# Altium integrated library ON Semi Signal Management Audio ASSP.IntLib: 26 symbols (part 1 of 2)
Pins are listed as number, name and electrical type; pins without a type are passive.

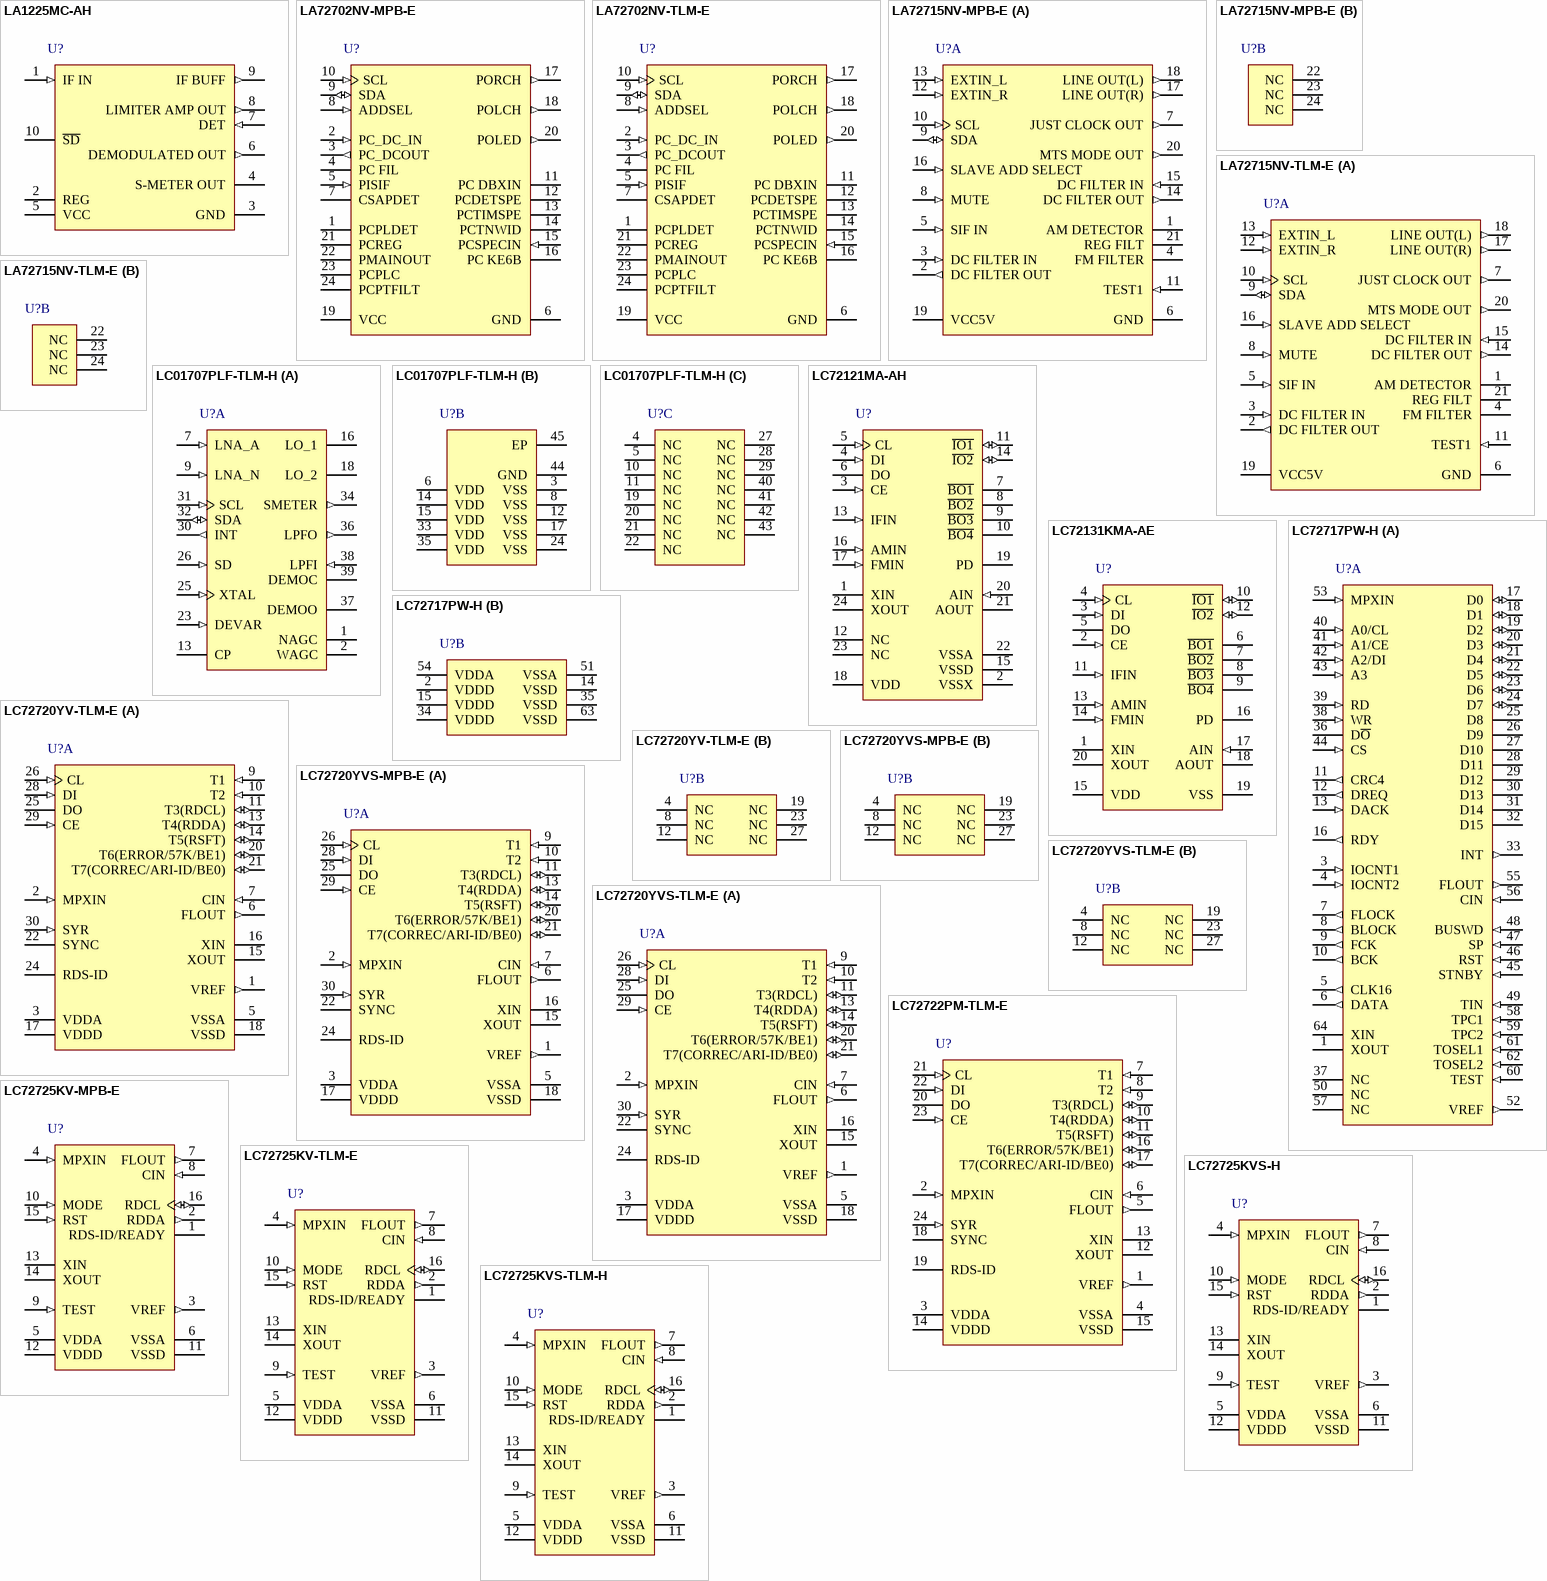
[diagram p0: symbols LA1225MC-AH to LC72725KVS-TLM-H]

## LA1225MC-AH
designator U?
FM IF Detector IC, 1.8 to 8 V, -20 to 85 degC, 10-Pin SOIC, Pb-Free, Tape and Reel; Manufacturer: On Semiconductor; PartNumber: LA1225MC-AH; Function: FM IF; Power Dissipation Max (mW): 100; Supply Voltage Max (V): 8; Supply Voltage Min (V): 1.8; DatasheetVersion: Rev. 0; PackageReference: SOIC-10-3426; PackageDescription: 10-Pin Small Outline Package, Body 5 x 4.4 mm, Pitch 1 mm; Supplier 1: Digi-Key; Supplier Part Number 1: LA1225MC-AH-ND; Supplier 2: Newark; Supplier Part Number 2: 45W2324; Supplier 3: Mouser; Supplier Part Number 3: 863-LA1225MC-AH; Packing: Tape and Reel; RoHS: TRUE; Mounting Technology: Surface Mount; ComponentLink1Description: Manufacturer URL; ComponentLink1URL: http://www.onsemi.com/; ComponentLink2Description: Datasheet; ComponentLink2URL: http://www.onsemi.com/pub_link/Collateral/ENA2052-D.PDF; ComponentLink3Description: Package Specification; ComponentLink3URL: http://www.onsemi.com/pub_link/Collateral/ENA2032-D.PDF
footprint ONSC-SOIC-10-3426_N (SOP, 10-Leads, Body 5x4.4mm, Pitch 1mm, IPC Medium Density)
footprint ONSC-SOIC-10-3426_L (SOP, 10-Leads, Body 5x4.4mm, Pitch 1mm, IPC High Density)
footprint ONSC-SOIC-10-3426_M (SOP, 10-Leads, Body 5x4.4mm, Pitch 1mm, IPC Low Density)
pins: 1 IF IN (in), 2 REG (power), 3 GND (power), 4 S-METER OUT (oe), 5 VCC (power), 6 DEMODULATED OUT (out), 7 DET (in), 8 LIMITER AMP OUT (out), 9 IF BUFF (out), 10 ~{SD} (oc)

## LA72702NV-MPB-E
designator U?
BTSC Decoder for US TV, 4.5 to 5.5 V, -20 to 85 degC, 24-Pin SSOP, Pb-Free, Fan-Fold; Manufacturer: On Semiconductor; PartNumber: LA72702NV-MPB-E; Power Dissipation Max (mW): 290; Supply Voltage Max (V): 5.5; Supply Voltage Min (V): 4.5; DatasheetVersion: Rev. 0; PackageReference: SSOP-24; PackageDescription: 24-Pin Small Outline Package, Body 7.8 x 5.6 mm, Pitch 0.65 mm; Supplier 1: Mouser; Supplier Part Number 1: 863-LA72702NV-MPB-E; Function: BTSC Decoder; Packing: Fan-Fold; RoHS: TRUE; Mounting Technology: Surface Mount; ComponentLink1Description: Manufacturer URL; ComponentLink1URL: http://www.onsemi.com/; ComponentLink2Description: Datasheet; ComponentLink2URL: http://www.onsemi.com/pub_link/Collateral/ENA0979-D.PDF; ComponentLink3Description: Package Specification; ComponentLink3URL: http://www.onsemi.com/pub_link/Collateral/ENA0979-D.PDF
footprint ONSC-SSOP-24_N (SOP, 24-Leads, Body 7.8x5.6mm, Pitch 0.65mm, IPC Medium Density)
footprint ONSC-SSOP-24_L (SOP, 24-Leads, Body 7.8x5.6mm, Pitch 0.65mm, IPC High Density)
footprint ONSC-SSOP-24_M (SOP, 24-Leads, Body 7.8x5.6mm, Pitch 0.65mm, IPC Low Density)
pins: 1 PCPLDET, 2 PC_DC_IN (in), 3 PC_DCOUT (out), 4 PC FIL, 5 PISIF (in), 6 GND (power), 7 CSAPDET, 8 ADDSEL (in), 9 SDA (io), 10 SCL (in), 11 PC DBXIN, 12 PCDETSPE, 13 PCTIMSPE, 14 PCTNWID, 15 PCSPECIN (in), 16 PC KE6B, 17 PORCH (out), 18 POLCH (out), 19 VCC (power), 20 POLED (out), 21 PCREG, 22 PMAINOUT, 23 PCPLC, 24 PCPTFILT

## LA72702NV-TLM-E
designator U?
BTSC Decoder for US TV, 4.5 to 5.5 V, -20 to 85 degC, 24-Pin SSOP, Pb-Free, Tape and Reel; Manufacturer: On Semiconductor; PartNumber: LA72702NV-TLM-E; Power Dissipation Max (mW): 290; Supply Voltage Max (V): 5.5; Supply Voltage Min (V): 4.5; DatasheetVersion: Rev. 0; PackageReference: SSOP-24; PackageDescription: 24-Pin Small Outline Package, Body 7.8 x 5.6 mm, Pitch 0.65 mm; Supplier 1: Mouser; Supplier Part Number 1: 863-LA72702NV-TLM-E; Function: BTSC Decoder; Packing: Tape and Reel; RoHS: TRUE; Mounting Technology: Surface Mount; ComponentLink1Description: Manufacturer URL; ComponentLink1URL: http://www.onsemi.com/; ComponentLink2Description: Datasheet; ComponentLink2URL: http://www.onsemi.com/pub_link/Collateral/ENA0979-D.PDF; ComponentLink3Description: Package Specification; ComponentLink3URL: http://www.onsemi.com/pub_link/Collateral/ENA0979-D.PDF
footprint ONSC-SSOP-24_N (SOP, 24-Leads, Body 7.8x5.6mm, Pitch 0.65mm, IPC Medium Density)
footprint ONSC-SSOP-24_L (SOP, 24-Leads, Body 7.8x5.6mm, Pitch 0.65mm, IPC High Density)
footprint ONSC-SSOP-24_M (SOP, 24-Leads, Body 7.8x5.6mm, Pitch 0.65mm, IPC Low Density)
pins: 1 PCPLDET, 2 PC_DC_IN (in), 3 PC_DCOUT (out), 4 PC FIL, 5 PISIF (in), 6 GND (power), 7 CSAPDET, 8 ADDSEL (in), 9 SDA (io), 10 SCL (in), 11 PC DBXIN, 12 PCDETSPE, 13 PCTIMSPE, 14 PCTNWID, 15 PCSPECIN (in), 16 PC KE6B, 17 PORCH (out), 18 POLCH (out), 19 VCC (power), 20 POLED (out), 21 PCREG, 22 PMAINOUT, 23 PCPLC, 24 PCPTFILT

## LA72715NV-MPB-E
designator U?
MTS (Multi Channel Television Sound) Decoder IC, 4.5 to 5.5 V, -20 to 80 degC, 24-Pin SSOP, Pb-Free, Fan-Fold; Manufacturer: On Semiconductor; PartNumber: LA72715NV-MPB-E; Function: MTS Decoder; Power Dissipation Max (mW): 203; Supply Voltage Max (V): 5.5; Supply Voltage Min (V): 4.5; DatasheetVersion: Rev. 0; PackageReference: SSOP-24; PackageDescription: 24-Pin Small Outline Package, Body 7.8 x 5.6 mm, Pitch 0.65 mm; Supplier 1: Mouser; Supplier Part Number 1: 863-LA72715NV-MPB-E; Packing: Fan-Fold; RoHS: TRUE; Mounting Technology: Surface Mount; ComponentLink1Description: Manufacturer URL; ComponentLink1URL: http://www.onsemi.com/; ComponentLink2Description: Datasheet; ComponentLink2URL: http://www.onsemi.com/pub_link/Collateral/LA72715NV-D.PDF; ComponentLink3Description: Package Specification; ComponentLink3URL: http://www.onsemi.com/pub_link/Collateral/ENA0979-D.PDF
footprint ONSC-SSOP-24_N (SOP, 24-Leads, Body 7.8x5.6mm, Pitch 0.65mm, IPC Medium Density)
footprint ONSC-SSOP-24_L (SOP, 24-Leads, Body 7.8x5.6mm, Pitch 0.65mm, IPC High Density)
footprint ONSC-SSOP-24_M (SOP, 24-Leads, Body 7.8x5.6mm, Pitch 0.65mm, IPC Low Density)
part A pins: 1 AM DETECTOR, 2 DC FILTER OUT (out), 3 DC FILTER IN (in), 4 FM FILTER, 5 SIF IN (in), 6 GND (power), 7 JUST CLOCK OUT (out), 8 MUTE (in), 9 SDA (io), 10 SCL (in), 11 TEST1 (in), 12 EXTIN_R (in), 13 EXTIN_L (in), 14 DC FILTER OUT (out), 15 DC FILTER IN (in), 16 SLAVE ADD SELECT (in), 17 LINE OUT(R) (out), 18 LINE OUT(L) (out), 19 VCC5V (power), 20 MTS MODE OUT (out), 21 REG FILT
part B pins: 22 NC, 23 NC, 24 NC

## LA72715NV-TLM-E
designator U?
MTS (Multi Channel Television Sound) Decoder IC, 4.5 to 5.5 V, -20 to 80 degC, 24-Pin SSOP, Pb-Free, Tape and Reel; Manufacturer: On Semiconductor; PartNumber: LA72715NV-TLM-E; Function: MTS Decoder; Power Dissipation Max (mW): 203; Supply Voltage Max (V): 5.5; Supply Voltage Min (V): 4.5; DatasheetVersion: Rev. 0; PackageReference: SSOP-24; PackageDescription: 24-Pin Small Outline Package, Body 7.8 x 5.6 mm, Pitch 0.65 mm; Supplier 1: Digi-Key; Supplier Part Number 1: LA72715NV-TLM-E-ND; Supplier 2: Mouser; Supplier Part Number 2: 863-LA72715NV-TLM-E; Packing: Tape and Reel; RoHS: TRUE; Mounting Technology: Surface Mount; ComponentLink1Description: Manufacturer URL; ComponentLink1URL: http://www.onsemi.com/; ComponentLink2Description: Datasheet; ComponentLink2URL: http://www.onsemi.com/pub_link/Collateral/LA72715NV-D.PDF; ComponentLink3Description: Package Specification; ComponentLink3URL: http://www.onsemi.com/pub_link/Collateral/ENA0979-D.PDF
footprint ONSC-SSOP-24_N (SOP, 24-Leads, Body 7.8x5.6mm, Pitch 0.65mm, IPC Medium Density)
footprint ONSC-SSOP-24_L (SOP, 24-Leads, Body 7.8x5.6mm, Pitch 0.65mm, IPC High Density)
footprint ONSC-SSOP-24_M (SOP, 24-Leads, Body 7.8x5.6mm, Pitch 0.65mm, IPC Low Density)
part A pins: 1 AM DETECTOR, 2 DC FILTER OUT (out), 3 DC FILTER IN (in), 4 FM FILTER, 5 SIF IN (in), 6 GND (power), 7 JUST CLOCK OUT (out), 8 MUTE (in), 9 SDA (io), 10 SCL (in), 11 TEST1 (in), 12 EXTIN_R (in), 13 EXTIN_L (in), 14 DC FILTER OUT (out), 15 DC FILTER IN (in), 16 SLAVE ADD SELECT (in), 17 LINE OUT(R) (out), 18 LINE OUT(L) (out), 19 VCC5V (power), 20 MTS MODE OUT (out), 21 REG FILT
part B pins: 22 NC, 23 NC, 24 NC

## LC01707PLF-TLM-H
designator U?
FM Multiple Tuner IC, 3 to 3.6 V, -40 to 85 degC, 44-Pin VQFN44K, Pb-Free, Tape and Reel; Manufacturer: On Semiconductor; PartNumber: LC01707PLF-TLM-H; Power Dissipation Max (mW): 700; Supply Voltage Max (V): 3.6; Supply Voltage Min (V): 3; DatasheetVersion: Rev. 2; PackageVersion: Rev. A, 12/2013; PackageReference: VQFN44K-44-485CH; PackageDescription: 44-Pin Quad Flat No-Lead, Body 6 x 6 mm, Pitch 0.4 mm; Supplier 1: Digi-Key; Supplier Part Number 1: LC01707PLF-TLM-H-ND; Supplier 2: Mouser; Supplier Part Number 2: 863-LC01707PLF-TLM-H; Function: FM Multiple Tuner; Packing: Tape and Reel; RoHS: TRUE; Mounting Technology: Surface Mount; ComponentLink1Description: Manufacturer URL; ComponentLink1URL: http://www.onsemi.com/; ComponentLink2Description: Datasheet; ComponentLink2URL: http://www.onsemi.com/pub_link/Collateral/ENA1928-D.PDF; ComponentLink3Description: Package Specification; ComponentLink3URL: http://www.onsemi.com/pub_link/Collateral/485CH.PDF
footprint ONSC-VQFN44K-44-485CH_V (QFN, 44-Leads, Body 6x6mm, Pitch 0.4mm, Thermal Pad 4x4mm)
part A pins: 1 NAGC "Narrow band AGC detection capacitance connecting pin", 2 WAGC "Wide band AGC detection capacitance connecting pin", 7 LNA_A (in) "LNA +input pin", 9 LNA_N (in) "LNA -input pin", 13 CP "PLL charge pump capacitance conneting pin", 16 LO_1 "Inductor connecting pin for local oscillation", 18 LO_2 "Inductor connecting pin for local oscillation", 23 DEVAR (in) "Device address setting pin", 25 XTAL (in) "Crystal resonator connecting pin (Clock input pin)", 26 SD (in) "Station detector pin", 30 INT (out) "Test pin", 31 SCL (in) "Serial data clock input", 32 SDA (io) "Serial data input-output", 34 SMETER (out) "S-meter output", 36 LPFO (out) "Demodulation output (after band limitation)", 37 DEMOO "Demodulation output", 38 LPFI (in) "Demodulation signal input pin", 39 DEMOC "Capacitance connecting pin for demodulation detection"
part B pins: 3 VSS (power) "GND pin for IF", 6 VDD (power) "Supply pin for LNA", 8 VSS (power) "GND pin for LNA", 12 VSS (power) "GND pin for 1st Mixer", 14 VDD (power) "Supply pin 1st Mixer", 15 VDD (power) "Supply pin for local oscillation", 17 VSS (power) "GND pin for local oscillation", 24 VSS (power) "GND pin for PLL and logic", 33 VDD (power) "Supply pin for PLL and logic", 35 VDD (power) "Supply pin for IF", 44 GND (power) "GND pin", 45 EP
part C pins: 4 NC, 5 NC, 10 NC, 11 NC, 19 NC, 20 NC, 21 NC, 22 NC, 27 NC, 28 NC, 29 NC, 40 NC, 41 NC, 42 NC, 43 NC

## LC72121MA-AH
designator U?
PLL Frequency Synthesizer for Electronic Tuning, 2.7 to 3.6 V, -40 to 85 degC, 24-Pin MFP24SJ, Pb-Free, Tape and Reel; Manufacturer: On Semiconductor; PartNumber: LC72121MA-AH; Power Dissipation Max (mW): 200; Supply Voltage Max (V): 3.6; Supply Voltage Min (V): 2.7; DatasheetVersion: Rev. 0; PackageVersion: Rev. O, 05/2012; PackageReference: MFP24SJ-24-751DB; PackageDescription: 24-Pin Mini Flat Package, Body 13 x 6 mm, Pitch 1 mm; Supplier 1: Digi-Key; Supplier Part Number 1: LC72121MA-AH-ND; Supplier 2: Mouser; Supplier Part Number 2: 863-LC72121MA-AH; Function: PLL Frequency Synthesizer; Packing: Tape and Reel; RoHS: TRUE; Mounting Technology: Surface Mount; ComponentLink1Description: Manufacturer URL; ComponentLink1URL: http://www.onsemi.com/; ComponentLink2Description: Datasheet; ComponentLink2URL: http://www.onsemi.com/pub_link/Collateral/ENA2009-D.PDF; ComponentLink3Description: Package Specification; ComponentLink3URL: http://www.onsemi.com/pub_link/Collateral/751DB.PDF
footprint ONSC-MFP24SJ-24-751DB_N (SOP, 24-Leads, Body 13.2x6.2mm, Pitch 1mm, IPC Medium Density)
footprint ONSC-MFP24SJ-24-751DB_L (SOP, 24-Leads, Body 13.2x6.2mm, Pitch 1mm, IPC High Density)
footprint ONSC-MFP24SJ-24-751DB_M (SOP, 24-Leads, Body 13.2x6.2mm, Pitch 1mm, IPC Low Density)
pins: 1 XIN "Crystal oscillator element connections (4.5 or 7.2 MHz)", 2 VSSX (power) "Ground for the crystal oscillator circuit", 3 CE (in) "This pin must be set high to enable serial data input (DI) or serial data output (DO).", 4 DI (in) "Input for serial data transferred from the controller", 5 CL (in) "Clock used for data synchronization for serial data input (DI) and serial data output (DO).", 6 DO (oc) "Output for serial data transferred to the controller. The content of the data transmitted is determined by DOC0 through DOC2.", 7 ~{BO1} (oc) "Output-only ports", 8 ~{BO2} (oc) "Output-only ports", 9 ~{BO3} (oc) "Output-only ports", 10 ~{BO4} (oc) "Output-only ports", 11 ~{IO1} (io) "Shared function I/O ports", 12 NC "No connection", 13 IFIN (in) "The input frequency range is 0.4 to15MHz", 14 ~{IO2} (io) "Shared function I/O ports", 15 VSSD (power) "Ground for the LC72121MA digital systems other than those that use VSSa or VSSX.", 16 AMIN (in) "AMIN is selected when DVS in the serial data is set to 0.", 17 FMIN (in) "FMIN is selected when DVS in the serial data is set to 1.", 18 VDD (power) "LC72121MA power supply (VDD 2.7 to 3.6V)", 19 PD (hiz) "PLL charge pump output", 20 AIN (in) "Connections for the MOS transistor used for the PLL active low-pass filter.", 21 AOUT (oc) "Connections for the MOS transistor used for the PLL active low-pass filter.", 22 VSSA (power) "Ground for the low-pass filter MOS transistor", 23 NC "No connection", 24 XOUT "Crystal oscillator element connections (4.5 or 7.2 MHz)"

## LC72131KMA-AE
designator U?
PLL Frequency Synthesizer, 4.5 to 5.5 V, -40 to 85 degC, 20-Pin MFP20J, Pb-Free, Tape and Reel; Manufacturer: On Semiconductor; PartNumber: LC72131KMA-AE; Power Dissipation Max (mW): 180; Supply Voltage Max (V): 5.5; Supply Voltage Min (V): 4.5; DatasheetVersion: Rev. 0; PackageVersion: Rev. O, 05/2012; PackageReference: MFP20J-20-751DE; PackageDescription: 20-Pin Mini Flat Package, Body 12.7 x 5.4 mm, Pitch 1.27 mm; Supplier 1: Digi-Key; Supplier Part Number 1: LC72131KMA-AE-ND; Supplier 2: Newark; Supplier Part Number 2: 45W2716; Supplier 3: Mouser; Supplier Part Number 3: 863-LC72131KMA-AE; Function: PLL Frequency Synthesizer; Packing: Tape and Reel; RoHS: TRUE; Mounting Technology: Surface Mount; ComponentLink1Description: Manufacturer URL; ComponentLink1URL: http://www.onsemi.com/; ComponentLink2Description: Datasheet; ComponentLink2URL: http://www.onsemi.com/pub_link/Collateral/ENA0788-D.PDF; ComponentLink3Description: Package Specification; ComponentLink3URL: http://www.onsemi.com/pub_link/Collateral/751DE.PDF
footprint ONSC-MFP20J-20-751DE_N (SOIC, 20-Leads, Body 13x5.6mm, Pitch 1.27mm, IPC Medium Density)
footprint ONSC-MFP20J-20-751DE_L (SOIC, 20-Leads, Body 13x5.6mm, Pitch 1.27mm, IPC High Density)
footprint ONSC-MFP20J-20-751DE_M (SOIC, 20-Leads, Body 13x5.6mm, Pitch 1.27mm, IPC Low Density)
pins: 1 XIN "Crystal resonator connection (4.5MHz/7.2MHz)", 2 CE (in) "Set this pin high when inputting (DI) or outputting (DO) serial data.", 3 DI (in) "Inputs serial data transferred from the controller to the LC72131KMA.", 4 CL (in) "Used as the synchronization clock when inputting (DI) or outputting (DO) serial data.", 5 DO (oc) "Outputs serial data transferred from the LC72131KMA to the controller.", 6 ~{BO1} (oc) "Dedicated output pins", 7 ~{BO2} (oc) "Dedicated output pins", 8 ~{BO3} (oc) "Dedicated output pins", 9 ~{BO4} (oc) "Dedicated output pins", 10 ~{IO1} (io) "I/O dual-use pins", 11 IFIN (in) "Accepts an input in the frequncy range 0.4 to 12MHz.", 12 ~{IO2} (io) "I/O dual-use pins", 13 AMIN (in) "AMIN is selected when the serial data input DVS bit is set to 1.", 14 FMIN (in) "FMIN is selected when the serial data input DVS bit is set to 1.", 15 VDD (power) "The LC72131KMA power supply pin (VDD=4.5 to 5.5V)", 16 PD (hiz) "PLL charge pump output", 17 AIN (in) "The n-channel MOS transisor used for the PLL active low-pass filter.", 18 AOUT (oc) "The n-channel MOS transisor used for the PLL active low-pass filter.", 19 VSS (power) "The LC72131KMA ground", 20 XOUT "Crystal resonator connection (4.5MHz/7.2MHz)"

## LC72717PW-H
designator U?
Mobile FM Multiplex Broadcast (DARC) Receiver IC, 2.7 to 3.6 V, -40 to 85 degC, 64-Pin SQFP, Pb-Free, Tray; Manufacturer: On Semiconductor; PartNumber: LC72717PW-H; Function: Mobile FM Multi Broadcast Demodulator; Power Dissipation Max (mW): 200; Supply Voltage Max (V): 3.6; Supply Voltage Min (V): 2.7; DatasheetVersion: Rev. 2; PackageVersion: Rev. A, 11/2013; PackageReference: SQFP-64-131AK; PackageDescription: 64-Pin Quad Flat Package, Body 10 x 10 mm, Pitch 0.5 mm; Supplier 1: Digi-Key; Supplier Part Number 1: LC72717PW-H-ND; Supplier 2: Mouser; Supplier Part Number 2: 863-LC72717PW-H; Packing: Tray; RoHS: TRUE; Mounting Technology: Surface Mount; ComponentLink1Description: Manufacturer URL; ComponentLink1URL: http://www.onsemi.com/; ComponentLink2Description: Datasheet; ComponentLink2URL: http://www.onsemi.com/pub_link/Collateral/ENA2064-D.PDF; ComponentLink3Description: Package Specification; ComponentLink3URL: http://www.onsemi.com/pub_link/Collateral/131AK.PDF
footprint ONSC-SQFP-64-131AK_V (QFP, 64-Leads, Body 10x10mm, Pitch 0.5mm)
part A pins: 1 XOUT "Pin for system clock (crystal oscillator)", 3 IOCNT1 (in) "Data bus I/O control 1 input pin", 4 IOCNT2 (in) "Data bus I/O control 2 input pin", 5 CLK16 (out) "Clock regeneration monitor pin", 6 DATA (out) "Demodulation data monitor pin", 7 FLOCK (out) "Frame synchronization flag output pin", 8 BLOCK (out) "Block synchronization flag output pin", 9 FCK (out) "Frame start signal output pin", 10 BCK (out) "Block start signal output pin", 11 CRC4 (out) "Layer 4 CRC check result output pin", 12 DREQ (out) "DMA REQ signal output pin", 13 DACK (in) "DMA ACK signal input pin", 16 RDY (out) "Read data READY signal output pin", 17 D0 (io) "Data bus 0 I/O pin", 18 D1 (io) "Data bus 1 I/O pin", 19 D2 (io) "Data bus 2 I/O pin", 20 D3 (io) "Data bus 3 I/O pin", 21 D4 (io) "Data bus 4 I/O pin", 22 D5 (io) "Data bus 5 I/O pin", 23 D6 (io) "Data bus 6 I/O pin", 24 D7 (io) "Data bus 7 I/O pin", 25 D8 (hiz) "Data bus 8 output pin", 26 D9 (hiz) "Data bus 9 output pin", 27 D10 (hiz) "Data bus 10 output pin", 28 D11 (hiz) "Data bus 11 output pin", 29 D12 (hiz) "Data bus 12 output pin", 30 D13 (hiz) "Data bus 13 output pin", 31 D14 (hiz) "Data bus 14 output pin", 32 D15 (hiz) "Data bus 15 output pin", 33 INT (out) "Interrupt output pin for external CPU", 36 D~{O} (hiz) "DO\ output pin", 37 NC "NC pin", 38 WR (in) "Write control signal input pin", 39 RD (in) "Read control signal input pin", 40 A0/CL (in) "CL input pin(CCB IF)/address input pin0 (parallel IF)", 41 A1/CE (in) "CE input pin (CCB IF)/address input pin1 (parallel IF)", 42 A2/DI (in) "DI input pin (CCB IF)/address input pin2 (parallel IF)", 43 A3 (in) "Address input pin 3 (parallel IF)", 44 CS (in) "Chip selector input pin (parallel IF)", 45 STNBY (in) "Standby mode input pin", 46 RST (in) "System reset input pin", 47 SP (in) "CCB/parallel setting input pin", 48 BUSWD (in) "Data bus width setting input pin", 49 TIN (in) "Test input pin", 50 NC "NC pin", 52 VREF (out) "Subcarrier output pin (76kHz BPF output)", 53 MPXIN (in) "Baseband (multiplex) signal input pin", 55 FLOUT (out) "Subcarrier output pin (76kHz BPF output)", 56 CIN (in) "Subcarrier input pin (comparator input)", 57 NC "NC pin", 58 TPC1 (in) "Test input pin", 59 TPC2 (in) "Test input pin", 60 TEST (in) "Test mode setting pin", 61 TOSEL1 (in) "Test input pin", 62 TOSEL2 (in) "Test input pin", 64 XIN "System clock pin"
part B pins: 2 VDDD (power) "Digital power pin", 14 VSSD (power) "Digital GND pin", 15 VDDD (power) "Digital power pin", 34 VDDD (power) "Digital power pin", 35 VSSD (power) "Digital GND pin", 51 VSSA (power) "Analog GND pin", 54 VDDA (power) "Analog power pin", 63 VSSD (power) "Digital GND pin"

## LC72720YV-TLM-E
designator U?
Single-Chip RDS Signal-Processing System IC, 3 to 3.6 V, -40 to 85 degC, 30-Pin SSOP, Pb-Free, Tape and Reel; Manufacturer: On Semiconductor; PartNumber: LC72720YV-TLM-E; Function: RDS/RBDS Signal Processer; Power Dissipation Max (mW): 150; Supply Voltage Max (V): 3.6; Supply Voltage Min (V): 3; DatasheetVersion: Rev. 0; PackageReference: SSOP-30; PackageDescription: 30-Pin Small Outline Package, Body 8 x 4.4 mm, Pitch 0.5 mm; Supplier 1: Digi-Key; Supplier Part Number 1: LC72720YV-TLM-E-ND; Supplier 2: Mouser; Supplier Part Number 2: 863-LC72720YV-TLM-E; Packing: Tape and Reel; RoHS: TRUE; Mounting Technology: Surface Mount; ComponentLink1Description: Manufacturer URL; ComponentLink1URL: http://www.onsemi.com/; ComponentLink2Description: Datasheet; ComponentLink2URL: http://www.onsemi.com/pub_link/Collateral/EN6488-D.PDF; ComponentLink3Description: Package Specification; ComponentLink3URL: http://www.onsemi.com/pub_link/Collateral/ENA2162-D.PDF
footprint ONSC-SSOP-30_N (SOP, 30-Leads, Body 8x4.4mm, Pitch 0.5mm, IPC Medium Density)
footprint ONSC-SSOP-30_L (SOP, 30-Leads, Body 8x4.4mm, Pitch 0.5mm, IPC High Density)
footprint ONSC-SSOP-30_M (SOP, 30-Leads, Body 8x4.4mm, Pitch 0.5mm, IPC Low Density)
part A pins: 1 VREF (out) "Reference voltage output (Vdda/2)", 2 MPXIN (in) "Baseband (multiplexed) signal input", 3 VDDA (power) "Analog system power (+3.3V)", 5 VSSA (power) "Analog system ground", 6 FLOUT (out) "Subcarrier output (filter output)", 7 CIN (in) "Subcarrier iutput (comparator input)", 9 T1 (in) "Test input (This pin must always be connected to ground)", 10 T2 (in) "Test input (stangby control) 0:Normal operation, 1:Standby state (crystal oscillator stopped)", 11 T3(RDCL) (io) "Test I/O (RDS clock output)", 13 T4(RDDA) (io) "Test I/O (RDS data output)", 14 T5(RSFT) (io) "Test I/O (soft-decision control data output)", 15 XOUT "Crystal oscillator output (4.332/5.664MHz)", 16 XIN "Crystal oscillator input (external reference signal input)", 17 VDDD (power) "Digital system power supply (+3.3V)", 18 VSSD (power) "Digital system ground", 20 T6(ERROR/57K/BE1) (io) "Test I/O (erroe status, regenerated carrier, error block count)", 21 T7(CORREC/ARI-ID/BE0) (io) "Test I/O (erroe correction status, SK detection, error block count)", 22 SYNC (oc) "Block synchronization detection output", 24 RDS-ID (oc) "RDS detection output", 25 DO (oc) "Data output", 26 CL (in) "Clock input", 28 DI (in) "Data input", 29 CE (in) "Chip enable", 30 SYR (in) "Synchronization and RAM address reset (active high)"
part B pins: 4 NC, 8 NC, 12 NC, 19 NC, 23 NC, 27 NC

## LC72720YVS-MPB-E
designator U?
Single-Chip RDS Signal-Processing System IC, 3 to 3.6 V, -40 to 85 degC, 30-Pin SSOP, Pb-Free, Fan-Fold; Manufacturer: On Semiconductor; PartNumber: LC72720YVS-MPB-E; Function: RDS/RBDS Signal Processer; Power Dissipation Max (mW): 150; Supply Voltage Max (V): 3.6; Supply Voltage Min (V): 3; DatasheetVersion: Rev. 0; PackageReference: SSOP-30; PackageDescription: 30-Pin Small Outline Package, Body 8 x 4.4 mm, Pitch 0.5 mm; Supplier 1: Digi-Key; Supplier Part Number 1: LC72720YVS-MPB-E-ND; Supplier 2: Mouser; Supplier Part Number 2: 863-LC72720YVS-MPB-E; Packing: Fan-Fold; RoHS: TRUE; Mounting Technology: Surface Mount; ComponentLink1Description: Manufacturer URL; ComponentLink1URL: http://www.onsemi.com/; ComponentLink2Description: Datasheet; ComponentLink2URL: http://www.onsemi.com/pub_link/Collateral/ENA2155-D.PDF; ComponentLink3Description: Package Specification; ComponentLink3URL: http://www.onsemi.com/pub_link/Collateral/ENA2162-D.PDF
footprint ONSC-SSOP-30_N (SOP, 30-Leads, Body 8x4.4mm, Pitch 0.5mm, IPC Medium Density)
footprint ONSC-SSOP-30_L (SOP, 30-Leads, Body 8x4.4mm, Pitch 0.5mm, IPC High Density)
footprint ONSC-SSOP-30_M (SOP, 30-Leads, Body 8x4.4mm, Pitch 0.5mm, IPC Low Density)
part A pins: 1 VREF (out) "Reference voltage output (Vdda/2)", 2 MPXIN (in) "Baseband (multiplexed) signal input", 3 VDDA (power) "Analog system power (+3.3V)", 5 VSSA (power) "Analog system ground", 6 FLOUT (out) "Subcarrier output (filter output)", 7 CIN (in) "Subcarrier iutput (comparator input)", 9 T1 (in) "Test input (This pin must always be connected to ground)", 10 T2 (in) "Test input (stangby control) 0:Normal operation, 1:Standby state (crystal oscillator stopped)", 11 T3(RDCL) (io) "Test I/O (RDS clock output)", 13 T4(RDDA) (io) "Test I/O (RDS data output)", 14 T5(RSFT) (io) "Test I/O (soft-decision control data output)", 15 XOUT "Crystal oscillator output (4.332/5.664MHz)", 16 XIN "Crystal oscillator input (external reference signal input)", 17 VDDD (power) "Digital system power supply (+3.3V)", 18 VSSD (power) "Digital system ground", 20 T6(ERROR/57K/BE1) (io) "Test I/O (erroe status, regenerated carrier, error block count)", 21 T7(CORREC/ARI-ID/BE0) (io) "Test I/O (erroe correction status, SK detection, error block count)", 22 SYNC (oc) "Block synchronization detection output", 24 RDS-ID (oc) "RDS detection output", 25 DO (oc) "Data output", 26 CL (in) "Clock input", 28 DI (in) "Data input", 29 CE (in) "Chip enable", 30 SYR (in) "Synchronization and RAM address reset (active high)"
part B pins: 4 NC, 8 NC, 12 NC, 19 NC, 23 NC, 27 NC

## LC72720YVS-TLM-E
designator U?
Single-Chip RDS Signal-Processing System IC, 3 to 3.6 V, -40 to 85 degC, 30-Pin SSOP, Pb-Free, Tape and Reel; Manufacturer: On Semiconductor; PartNumber: LC72720YVS-TLM-E; Function: RDS/RBDS Signal Processer; Power Dissipation Max (mW): 150; Supply Voltage Max (V): 3.6; Supply Voltage Min (V): 3; DatasheetVersion: Rev. 0; PackageReference: SSOP-30; PackageDescription: 30-Pin Small Outline Package, Body 8 x 4.4 mm, Pitch 0.5 mm; Supplier 1: Digi-Key; Supplier Part Number 1: LC72720YVS-TLM-E-ND; Supplier 2: Mouser; Supplier Part Number 2: 863-LC72720YVS-TLM-E; Packing: Tape and Reel; RoHS: TRUE; Mounting Technology: Surface Mount; ComponentLink1Description: Manufacturer URL; ComponentLink1URL: http://www.onsemi.com/; ComponentLink2Description: Datasheet; ComponentLink2URL: http://www.onsemi.com/pub_link/Collateral/ENA2155-D.PDF; ComponentLink3Description: Package Specification; ComponentLink3URL: http://www.onsemi.com/pub_link/Collateral/ENA2162-D.PDF
footprint ONSC-SSOP-30_N (SOP, 30-Leads, Body 8x4.4mm, Pitch 0.5mm, IPC Medium Density)
footprint ONSC-SSOP-30_L (SOP, 30-Leads, Body 8x4.4mm, Pitch 0.5mm, IPC High Density)
footprint ONSC-SSOP-30_M (SOP, 30-Leads, Body 8x4.4mm, Pitch 0.5mm, IPC Low Density)
part A pins: 1 VREF (out) "Reference voltage output (Vdda/2)", 2 MPXIN (in) "Baseband (multiplexed) signal input", 3 VDDA (power) "Analog system power (+3.3V)", 5 VSSA (power) "Analog system ground", 6 FLOUT (out) "Subcarrier output (filter output)", 7 CIN (in) "Subcarrier iutput (comparator input)", 9 T1 (in) "Test input (This pin must always be connected to ground)", 10 T2 (in) "Test input (stangby control) 0:Normal operation, 1:Standby state (crystal oscillator stopped)", 11 T3(RDCL) (io) "Test I/O (RDS clock output)", 13 T4(RDDA) (io) "Test I/O (RDS data output)", 14 T5(RSFT) (io) "Test I/O (soft-decision control data output)", 15 XOUT "Crystal oscillator output (4.332/5.664MHz)", 16 XIN "Crystal oscillator input (external reference signal input)", 17 VDDD (power) "Digital system power supply (+3.3V)", 18 VSSD (power) "Digital system ground", 20 T6(ERROR/57K/BE1) (io) "Test I/O (erroe status, regenerated carrier, error block count)", 21 T7(CORREC/ARI-ID/BE0) (io) "Test I/O (erroe correction status, SK detection, error block count)", 22 SYNC (oc) "Block synchronization detection output", 24 RDS-ID (oc) "RDS detection output", 25 DO (oc) "Data output", 26 CL (in) "Clock input", 28 DI (in) "Data input", 29 CE (in) "Chip enable", 30 SYR (in) "Synchronization and RAM address reset (active high)"
part B pins: 4 NC, 8 NC, 12 NC, 19 NC, 23 NC, 27 NC

## LC72722PM-TLM-E
designator U?
Single-Chip RDS Signal-Processing System IC, 4.5 to 5.5 V, -40 to 85 degC, 24-Pin MFP, Pb-Free, Tape and Reel; Manufacturer: On Semiconductor; PartNumber: LC72722PM-TLM-E; Function: RDS/RBDS Signal Processer; Power Dissipation Max (mW): 175; Supply Voltage Max (V): 5.5; Supply Voltage Min (V): 4.5; DatasheetVersion: Rev. 1; PackageReference: MFP-24; PackageDescription: 24-Pin Mini Flat Package, Body 15.2 x 7.9 mm, Pitch 1.27 mm; Supplier 1: Digi-Key; Supplier Part Number 1: LC72722PM-TLM-E-ND; Supplier 2: Mouser; Supplier Part Number 2: 863-LC72722PM-TLM-E; Packing: Tape and Reel; RoHS: TRUE; Mounting Technology: Surface Mount; ComponentLink1Description: Manufacturer URL; ComponentLink1URL: http://www.onsemi.com/; ComponentLink2Description: Datasheet; ComponentLink2URL: http://www.onsemi.com/pub_link/Collateral/ENN6123-D.PDF; ComponentLink3Description: Package Specification; ComponentLink3URL: http://www.onsemi.com/pub_link/Collateral/ENN6123-D.PDF
footprint ONSC-MFP-24_N (SOIC, 24-Leads, Body 15.2x7.9mm, Pitch 1.27mm, IPC Medium Density)
footprint ONSC-MFP-24_L (SOIC, 24-Leads, Body 15.2x7.9mm, Pitch 1.27mm, IPC High Density)
footprint ONSC-MFP-24_M (SOIC, 24-Leads, Body 15.2x7.9mm, Pitch 1.27mm, IPC Low Density)
pins: 1 VREF (out) "Reference voltage output (Vdda/2)", 2 MPXIN (in) "Baseband (multiplexed) signal input", 3 VDDA (power) "Analog system power (+5V)", 4 VSSA (power) "Analog system ground", 5 FLOUT (out) "Subcarrier output (filter output)", 6 CIN (in) "Subcarrier iutput (comparator input)", 7 T1 (in) "Test input (This pin must always be connected to ground)", 8 T2 (in) "Test input (stangby control) 0:Normal operation, 1:Standby state (crystal oscillator stopped)", 9 T3(RDCL) (io) "Test I/O (RDS clock output)", 10 T4(RDDA) (io) "Test I/O (RDS data output)", 11 T5(RSFT) (io) "Test I/O (soft-decision control data output)", 12 XOUT "Crystal oscillator output (4.332/5.664MHz)", 13 XIN "Crystal oscillator input (external reference signal input)", 14 VDDD (power) "Digital system power supply (+5V)", 15 VSSD (power) "Digital system ground", 16 T6(ERROR/57K/BE1) (io) "Test I/O (error status, regenerated carrier, error block count)", 17 T7(CORREC/ARI-ID/BE0) (io) "Test I/O (error correction status, SK detection, error block count)", 18 SYNC (oc) "Block synchronization detection output", 19 RDS-ID (oc) "RDS detection output", 20 DO (oc) "Data output", 21 CL (in) "Clock input", 22 DI (in) "Data input", 23 CE (in) "Chip enable", 24 SYR (in) "Synchronization and RAM address reset (active high)"

## LC72725KV-MPB-E
designator U?
RDS(RBDS) Demodulation IC, 3 to 5.5 V, -40 to 85 degC, 16-Pin SSOP, Pb-Free; Manufacturer: On Semiconductor; PartNumber: LC72725KV-MPB-E; Function: RDS Demodulator; Power Dissipation Max (mW): 100; Supply Voltage Max (V): 5.5; Supply Voltage Min (V): 3; DatasheetVersion: Rev. 1; PackageReference: SSOP-16; PackageDescription: 16-Pin Small Outline Package, Body 5.2 x 4.4 mm, Pitch 0.65 mm; Supplier 1: Digi-Key; Supplier Part Number 1: LC72725KV-MPB-E-ND; Supplier 2: Newark; Supplier Part Number 2: 45W2738; Supplier 3: Mouser; Supplier Part Number 3: 863-LC72725KV-MPB-E; RoHS: TRUE; Mounting Technology: Surface Mount; ComponentLink1Description: Manufacturer URL; ComponentLink1URL: http://www.onsemi.com/; ComponentLink2Description: Datasheet; ComponentLink2URL: http://www.onsemi.com/pub_link/Collateral/LC72725KM-D.PDF; ComponentLink3Description: Package Specification; ComponentLink3URL: http://www.onsemi.com/pub_link/Collateral/ENA1879-D.PDF
footprint ONSC-SSOP-16_N (SOP, 16-Leads, Body 5.2x4.4mm, Pitch 0.65mm, IPC Medium Density)
footprint ONSC-SSOP-16_L (SOP, 16-Leads, Body 5.2x4.4mm, Pitch 0.65mm, IPC High Density)
footprint ONSC-SSOP-16_M (SOP, 16-Leads, Body 5.2x4.4mm, Pitch 0.65mm, IPC Low Density)
pins: 1 RDS-ID/READY (oc), 2 RDDA (out) "RDS data output", 3 VREF (out) "Reference voltage output (Vdda/2)", 4 MPXIN (in) "Baseband (multiplexed) signal input", 5 VDDA (power) "Analog system power supply (+3V)", 6 VSSA (power) "Analog system ground", 7 FLOUT (out) "Subcarrier output (filter output)", 8 CIN (in) "Subcarrier input (filter input)", 9 TEST (in) "Test input", 10 MODE (in) "Read out mode (0:master, 1:slave)", 11 VSSD (power) "Digital system ground", 12 VDDD (power) "Digital system power supply (+3V)", 13 XIN "Crystal oscillator input (external reference signal input)", 14 XOUT "Crystal oscillator output (4.332MHz)", 15 RST (in) "RDS-ID/RAM reset (active high)", 16 RDCL (io) "RDS clock output (master mode) /RDS read out clock input (slave mode)"

## LC72725KV-TLM-E
designator U?
RDS(RBDS) Demodulation IC, 3 to 5.5 V, -40 to 85 degC, 16-Pin SSOP, Pb-Free, Tape and Reel; Manufacturer: On Semiconductor; PartNumber: LC72725KV-TLM-E; Function: RDS Demodulator; Power Dissipation Max (mW): 100; Supply Voltage Max (V): 5.5; Supply Voltage Min (V): 3; DatasheetVersion: Rev. 1; PackageReference: SSOP-16; PackageDescription: 16-Pin Small Outline Package, Body 5.2 x 4.4 mm, Pitch 0.65 mm; Supplier 1: Digi-Key; Supplier Part Number 1: LC72725KV-TLM-E-ND; Supplier 2: Mouser; Supplier Part Number 2: 863-LC72725KV-TLM-E; Packing: Tape and Reel; RoHS: TRUE; Mounting Technology: Surface Mount; ComponentLink1Description: Manufacturer URL; ComponentLink1URL: http://www.onsemi.com/; ComponentLink2Description: Datasheet; ComponentLink2URL: http://www.onsemi.com/pub_link/Collateral/LC72725KM-D.PDF; ComponentLink3Description: Package Specification; ComponentLink3URL: http://www.onsemi.com/pub_link/Collateral/ENA1879-D.PDF
footprint ONSC-SSOP-16_N (SOP, 16-Leads, Body 5.2x4.4mm, Pitch 0.65mm, IPC Medium Density)
footprint ONSC-SSOP-16_L (SOP, 16-Leads, Body 5.2x4.4mm, Pitch 0.65mm, IPC High Density)
footprint ONSC-SSOP-16_M (SOP, 16-Leads, Body 5.2x4.4mm, Pitch 0.65mm, IPC Low Density)
pins: 1 RDS-ID/READY (oc), 2 RDDA (out) "RDS data output", 3 VREF (out) "Reference voltage output (Vdda/2)", 4 MPXIN (in) "Baseband (multiplexed) signal input", 5 VDDA (power) "Analog system power supply (+3V)", 6 VSSA (power) "Analog system ground", 7 FLOUT (out) "Subcarrier output (filter output)", 8 CIN (in) "Subcarrier input (filter input)", 9 TEST (in) "Test input", 10 MODE (in) "Read out mode (0:master, 1:slave)", 11 VSSD (power) "Digital system ground", 12 VDDD (power) "Digital system power supply (+3V)", 13 XIN "Crystal oscillator input (external reference signal input)", 14 XOUT "Crystal oscillator output (4.332MHz)", 15 RST (in) "RDS-ID/RAM reset (active high)", 16 RDCL (io) "RDS clock output (master mode) /RDS read out clock input (slave mode)"

## LC72725KVS-H
designator U?
RDS(RBDS) Demodulation IC, 3 to 5.5 V, -40 to 85 degC, 16-Pin SSOP, Pb-Free; Manufacturer: On Semiconductor; PartNumber: LC72725KVS-H; Function: RDS Demodulator; Power Dissipation Max (mW): 100; Supply Voltage Max (V): 5.5; Supply Voltage Min (V): 3; DatasheetVersion: Rev. 0; PackageReference: SSOP-16; PackageDescription: 16-Pin Small Outline Package, Body 5.2 x 4.4 mm, Pitch 0.65 mm; Supplier 1: Digi-Key; Supplier Part Number 1: LC72725KVS-H-ND; Supplier 2: Mouser; Supplier Part Number 2: 863-LC72725KVS-H; RoHS: TRUE; Mounting Technology: Surface Mount; ComponentLink1Description: Manufacturer URL; ComponentLink1URL: http://www.onsemi.com/; ComponentLink2Description: Datasheet; ComponentLink2URL: http://www.onsemi.com/pub_link/Collateral/LC72725KVS-D.PDF; ComponentLink3Description: Package Specification; ComponentLink3URL: http://www.onsemi.com/pub_link/Collateral/ENA1879-D.PDF
footprint ONSC-SSOP-16_N (SOP, 16-Leads, Body 5.2x4.4mm, Pitch 0.65mm, IPC Medium Density)
footprint ONSC-SSOP-16_L (SOP, 16-Leads, Body 5.2x4.4mm, Pitch 0.65mm, IPC High Density)
footprint ONSC-SSOP-16_M (SOP, 16-Leads, Body 5.2x4.4mm, Pitch 0.65mm, IPC Low Density)
pins: 1 RDS-ID/READY (oc), 2 RDDA (out) "RDS data output", 3 VREF (out) "Reference voltage output (Vdda/2)", 4 MPXIN (in) "Baseband (multiplexed) signal input", 5 VDDA (power) "Analog system power supply (+3V)", 6 VSSA (power) "Analog system ground", 7 FLOUT (out) "Subcarrier output (filter output)", 8 CIN (in) "Subcarrier input (filter input)", 9 TEST (in) "Test input", 10 MODE (in) "Read out mode (0:master, 1:slave)", 11 VSSD (power) "Digital system ground", 12 VDDD (power) "Digital system power supply (+3V)", 13 XIN "Crystal oscillator input (external reference signal input)", 14 XOUT "Crystal oscillator output (4.332MHz)", 15 RST (in) "RDS-ID/RAM reset (active high)", 16 RDCL (io) "RDS clock output (master mode) /RDS read out clock input (slave mode)"

## LC72725KVS-TLM-H
designator U?
RDS(RBDS) Demodulation IC, 3 to 5.5 V, -40 to 85 degC, 16-Pin SSOP, Pb-Free, Tape and Reel; Manufacturer: On Semiconductor; PartNumber: LC72725KVS-TLM-H; Function: RDS Demodulator; Power Dissipation Max (mW): 100; Supply Voltage Max (V): 5.5; Supply Voltage Min (V): 3; DatasheetVersion: Rev. 0; PackageReference: SSOP-16; PackageDescription: 16-Pin Small Outline Package, Body 5.2 x 4.4 mm, Pitch 0.65 mm; Supplier 1: Digi-Key; Supplier Part Number 1: LC72725KVS-TLM-H-ND; Supplier 2: Mouser; Supplier Part Number 2: 863-LC72725KVS-TLM-H; Packing: Tape and Reel; RoHS: TRUE; Mounting Technology: Surface Mount; ComponentLink1Description: Manufacturer URL; ComponentLink1URL: http://www.onsemi.com/; ComponentLink2Description: Datasheet; ComponentLink2URL: http://www.onsemi.com/pub_link/Collateral/LC72725KVS-D.PDF; ComponentLink3Description: Package Specification; ComponentLink3URL: http://www.onsemi.com/pub_link/Collateral/ENA1879-D.PDF
footprint ONSC-SSOP-16_N (SOP, 16-Leads, Body 5.2x4.4mm, Pitch 0.65mm, IPC Medium Density)
footprint ONSC-SSOP-16_L (SOP, 16-Leads, Body 5.2x4.4mm, Pitch 0.65mm, IPC High Density)
footprint ONSC-SSOP-16_M (SOP, 16-Leads, Body 5.2x4.4mm, Pitch 0.65mm, IPC Low Density)
pins: 1 RDS-ID/READY (oc), 2 RDDA (out) "RDS data output", 3 VREF (out) "Reference voltage output (Vdda/2)", 4 MPXIN (in) "Baseband (multiplexed) signal input", 5 VDDA (power) "Analog system power supply (+3V)", 6 VSSA (power) "Analog system ground", 7 FLOUT (out) "Subcarrier output (filter output)", 8 CIN (in) "Subcarrier input (filter input)", 9 TEST (in) "Test input", 10 MODE (in) "Read out mode (0:master, 1:slave)", 11 VSSD (power) "Digital system ground", 12 VDDD (power) "Digital system power supply (+3V)", 13 XIN "Crystal oscillator input (external reference signal input)", 14 XOUT "Crystal oscillator output (4.332MHz)", 15 RST (in) "RDS-ID/RAM reset (active high)", 16 RDCL (io) "RDS clock output (master mode) /RDS read out clock input (slave mode)"

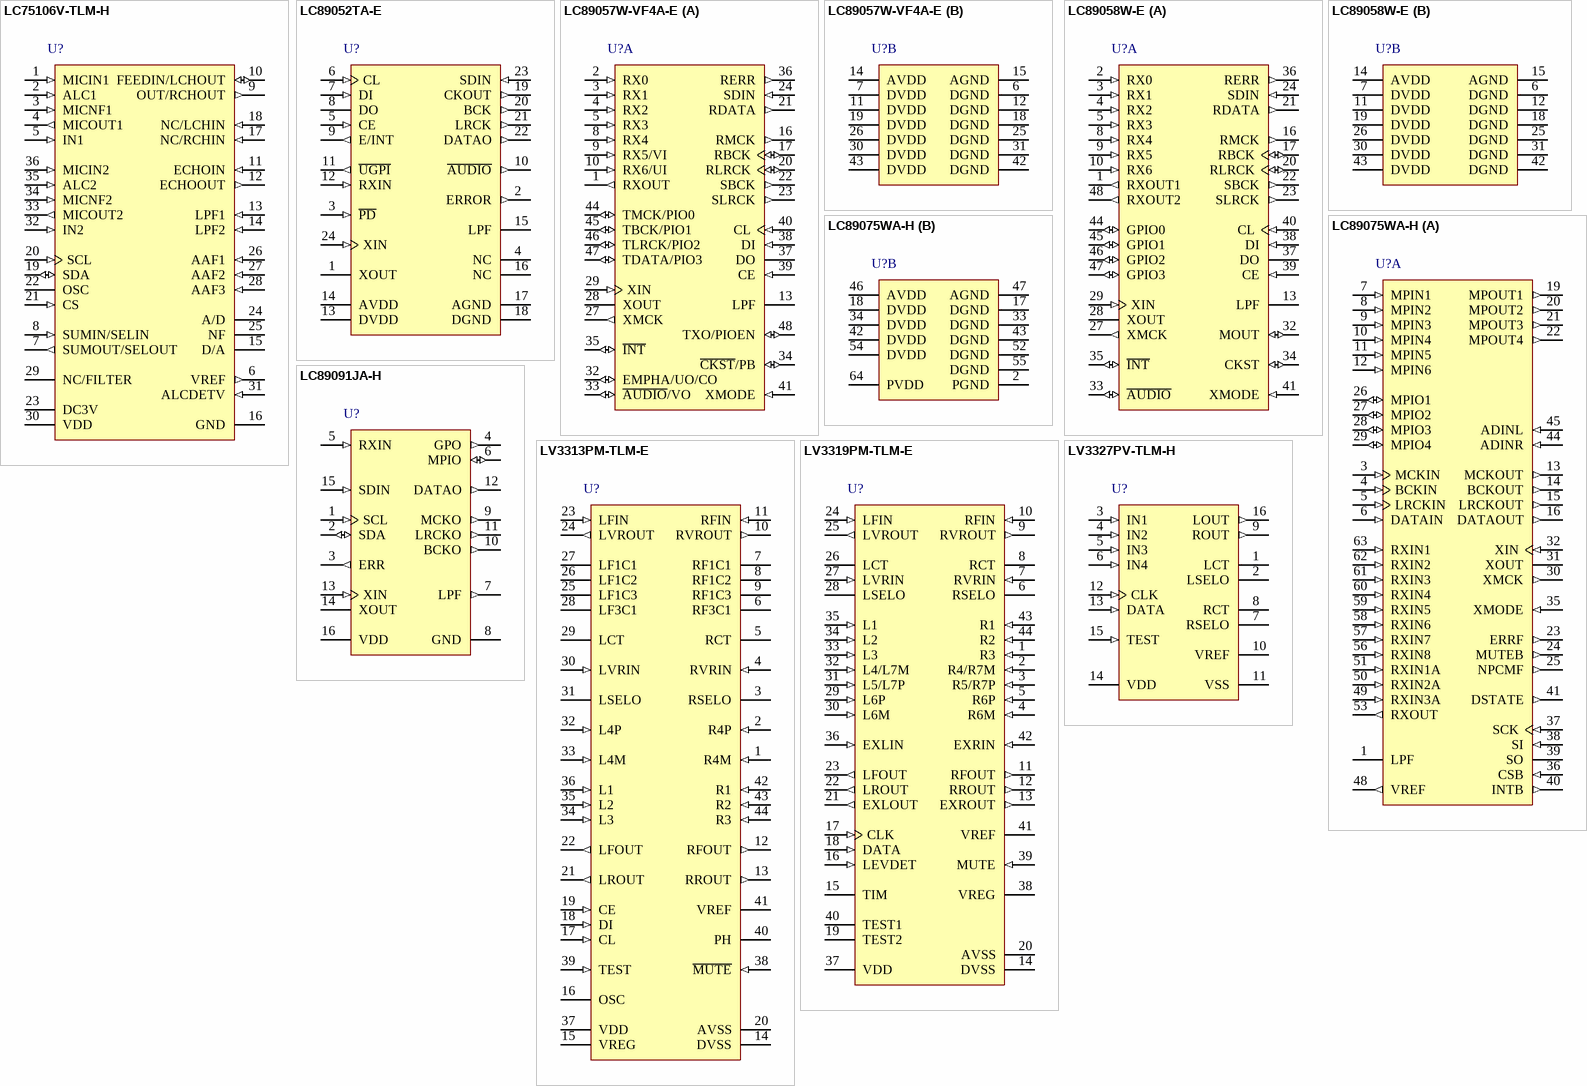
[diagram p1: symbols LC75106V-TLM-H to LV3327PV-TLM-H]

## LC75106V-TLM-H
designator U?
Digital Echo LSI with Built-In Mic Amplifier, 8 to 10 V, -20 to 70 degC, 36-Pin SSOP, Pb-Free, Tape and Reel; Manufacturer: On Semiconductor; PartNumber: LC75106V-TLM-H; Power Dissipation Max (mW): 500; Supply Voltage Max (V): 10; Supply Voltage Min (V): 8; DatasheetVersion: Rev. 0; PackageReference: SSOP-36; PackageDescription: 36-Pin Small Outline Package, Body 15 x 5.6 mm, Pitch 0.8 mm; Supplier 1: Mouser; Supplier Part Number 1: 863-LC75106V-TLM-H; Function: Digital Echo; Packing: Tape and Reel; RoHS: TRUE; Mounting Technology: Surface Mount; ComponentLink1Description: Manufacturer URL; ComponentLink1URL: http://www.onsemi.com/; ComponentLink2Description: Datasheet; ComponentLink2URL: http://www.onsemi.com/pub_link/Collateral/ENA2153-D.PDF; ComponentLink3Description: Package Specification; ComponentLink3URL: http://www.onsemi.com/pub_link/Collateral/ENA2153-D.PDF
footprint ONSC-SSOP-36_N (SOP, 36-Leads, Body 15x5.6mm, Pitch 0.8mm, IPC Medium Density)
footprint ONSC-SSOP-36_L (SOP, 36-Leads, Body 15x5.6mm, Pitch 0.8mm, IPC High Density)
footprint ONSC-SSOP-36_M (SOP, 36-Leads, Body 15x5.6mm, Pitch 0.8mm, IPC Low Density)
pins: 1 MICIN1 (in) "Mic signal input 1", 2 ALC1 (in) "Auto level control terminal 1", 3 MICNF1 (in) "Mic feedback signal input terminal 1", 4 MICOUT1 (out) "Mic signal output terminal 1", 5 IN1 (in) "Mic volume input terminal 1", 6 VREF (out) "Internal standard voltage", 7 SUMOUT/SELOUT (out), 8 SUMIN/SELIN (in), 9 OUT/RCHOUT (out), 10 FEEDIN/LCHOUT (io), 11 ECHOIN (in) "Echo signal input", 12 ECHOOUT (out) "Echo signal output", 13 LPF1 (in) "LPF input terminal 1", 14 LPF2 (in) "LPF input terminal 2", 15 D/A "Terminal for D/A", 16 GND (power) "Analog GND", 17 NC/RCHIN (in), 18 NC/LCHIN (in), 19 SDA (io) "I2C bus SDA terminal", 20 SCL (in) "I2C bus SCL terminal", 21 CS (in) "MODE select terminal", 22 OSC "Oscillator circuit adjustment terminal", 23 DC3V (power) "Power source for logic block", 24 A/D "Terminal for A/D", 25 NF "Terminal for A/D", 26 AAF1 (in) "AAF input terminal 1", 27 AAF2 (in) "AAF input terminal 2", 28 AAF3 (in) "AAF input terminal 3", 29 NC/FILTER, 30 VDD (power) "Supply voltage", 31 ALCDETV (in) "ALC setting voltage input terminal", 32 IN2 (in) "Mic volume input terminal 2", 33 MICOUT2 (out) "Mic signal output terminal 2", 34 MICNF2 (in) "Mic feedback signal input terminal 2", 35 ALC2 (in) "Auto level control terminal 2", 36 MICIN2 (in) "Mic signal input 2"

## LC89052TA-E
designator U?
Digital Audio Interface Receiver, 3 to 3.6 V, -30 to 70 degC, 24-Pin TSSOP, Pb-Free; Manufacturer: On Semiconductor; PartNumber: LC89052TA-E; Function: S/PDIF Demodulator; Supply Voltage Max (V): 3.6; Supply Voltage Min (V): 3; DatasheetVersion: Rev. 0; PackageVersion: Rev. A, 10/2013; PackageReference: TSSOP-24-948BA; PackageDescription: 24-Pin Small Outline Package, Body 6.5 x 4.4 mm, Pitch 0.5 mm; Supplier 1: Mouser; Supplier Part Number 1: 863-LC89052TA-E; RoHS: TRUE; Mounting Technology: Surface Mount; ComponentLink1Description: Manufacturer URL; ComponentLink1URL: http://www.onsemi.com/; ComponentLink2Description: Datasheet; ComponentLink2URL: http://www.onsemi.com/pub_link/Collateral/ENN7457-D.PDF; ComponentLink3Description: Package Specification; ComponentLink3URL: http://www.onsemi.com/pub_link/Collateral/948BA.PDF
footprint ONSC-TSSOP-24-948BA_V (SOP, 24-Leads, Body 6.6x4.5mm, Pitch 0.5mm)
pins: 1 XOUT "Oscillation amplifier circuit output pin", 2 ERROR (out) "PLL lock error and data error output pin", 3 ~{PD} (in) "System reset and low-power mode control input pin", 4 NC "Non connection", 5 CE (in) "Microcontroller interface: chip enable input pin", 6 CL (in) "Microcontroller interface: serial clock input pin", 7 DI (in) "Microcontroller interface: write data input pin", 8 DO (hiz) "Microcontroller interface: read data output pin", 9 E/INT (out) "Pre-emphasis detection or microcontroller interface interrupt output pin", 10 ~{AUDIO} (out) "Channel status bit 1 non-PCM data detection output pin", 11 ~{UGPI} (out) "User settable output pin", 12 RXIN (in) "Digital data input pin", 13 DVDD (power) "Digital power supply pin", 14 AVDD (power) "Analog power supply pin", 15 LPF "PLL loop filter pin", 16 NC "Non connection", 17 AGND (power) "Analong GND pin", 18 DGND (power) "Digital GND pin", 19 CKOUT (out) "System clock output pin", 20 BCK (out) "64fs clock output pin", 21 LRCK (out) "Fs clock output pin", 22 DATAO (out) "Demodulated data output pin", 23 SDIN (in) "Serial digital data input pin", 24 XIN (in) "Oscillator or external clock input pin"

## LC89057W-VF4A-E
designator U?
Digital Audio Interface Transceiver, 3 to 3.6 V, -30 to 70 degC, 48-Pin SQFP, Pb-Free; Manufacturer: On Semiconductor; PartNumber: LC89057W-VF4A-E; Function: S/PDIF Modulator/Demodulator; Supply Voltage Max (V): 3.6; Supply Voltage Min (V): 3; DatasheetVersion: Rev. 0; PackageReference: SQFP-48; PackageDescription: 48-Pin Quad Flat Package, Body 7 x 7 mm, Pitch 0.5 mm; Supplier 1: Mouser; Supplier Part Number 1: 863-LC89057W-VF4A-E; RoHS: TRUE; Mounting Technology: Surface Mount; ComponentLink1Description: Manufacturer URL; ComponentLink1URL: http://www.onsemi.com/; ComponentLink2Description: Datasheet; ComponentLink2URL: http://www.onsemi.com/pub_link/Collateral/EN7202-D.PDF; ComponentLink3Description: Package Specification; ComponentLink3URL: http://www.onsemi.com/pub_link/Collateral/EN7202-D.PDF
footprint ONSC-SQFP-48_N (QFP, 48-Leads, Body 7x7mm, Pitch 0.5mm, IPC Medium Density)
footprint ONSC-SQFP-48_L (QFP, 48-Leads, Body 7x7mm, Pitch 0.5mm, IPC High Density)
footprint ONSC-SQFP-48_M (QFP, 48-Leads, Body 7x7mm, Pitch 0.5mm, IPC Low Density)
part A pins: 1 RXOUT (out) "Output pin of input bi-phase selection data", 2 RX0 (in) "Input pin of TLL-compatible digital data", 3 RX1 (in) "Digital data input pin with built-in amplifer that supports coaxial", 4 RX2 (in) "Input pin of TLL-compatible digital data", 5 RX3 (in) "Input pin of TLL-compatible digital data", 8 RX4 (in) "Input pin of TLL-compatible digital data", 9 RX5/VI (in), 10 RX6/UI (in), 13 LPF "PLL loop filter connection pin", 16 RMCK (out) "R system clock output pin (256fs, 512fs, XIN, VCO)", 17 RBCK (io) "R system bit clock input/output pin (64fs)", 20 RLRCK (io) "R system LR clock input/output pin (fs)", 21 RDATA (out) "Output pin of serial audio data", 22 SBCK (out) "S system bit clock output pin (32fs, 64fs, 128fs)", 23 SLRCK (out) "S system LR clock output pin (fs/2, fs, 2fs)", 24 SDIN (in) "Input pin of serial audio data", 27 XMCK (out) "Oscillation amplifier output pin", 28 XOUT "Quartz resonator connection output pin", 29 XIN (in) "Quartz resonator connection, input pin of external supply clock (24.576MHz or 12.288MHz)", 32 EMPHA/UO/CO (io), 33 ~{AUDIO}/VO (io), 34 ~{CKST}/PB (io), 35 ~{INT} (io) "Interrupt output for Microcontroller (Possible to select an interrupt factor.)||Modulation or general-purpose I/O switch pin", 36 RERR (out) "PLL clock error, data error flag output", 37 DO (hiz) "Microcontroller I/F, read data output pin (3-state)", 38 DI (in) "Microcontroller I/F, write data input pin", 39 CE (in) "Microcontroller I/F, chip enable input pin", 40 CL (in) "Microcontroller I/F, clock input pin", 41 XMODE (in) "System reset input pin", 44 TMCK/PIO0 (io), 45 TBCK/PIO1 (io), 46 TLRCK/PIO2 (io), 47 TDATA/PIO3 (io), 48 TXO/PIOEN (io)
part B pins: 6 DGND (power) "Digital GND", 7 DVDD (power) "Digital power supply", 11 DVDD (power) "Digital power supply for PLL", 12 DGND (power) "Digital GND for PLL", 14 AVDD (power) "Analog power supply for PLL", 15 AGND (power) "Analog GND for PLL", 18 DGND (power) "Digital GND", 19 DVDD (power) "Digital power supply", 25 DGND (power) "Digital GND", 26 DVDD (power) "Digital power supply", 30 DVDD (power) "Digital power supply", 31 DGND (power) "Digital GND", 42 DGND (power) "Digital GND", 43 DVDD (power) "Digital power supply"